# Altium footprint library Motion Controller.PcbLib: 208 footprints (part 1 of 13)
Each footprint in its own frame and in the unit in brackets; x right, y up, seen from the top. Pads: shape width x height; smd on the part's side, far side on the other; paste and mask are expansions set on the pad; w line width, h text height; cw(c..) or ccw(c..) is an arc to the next point about the centre after c.
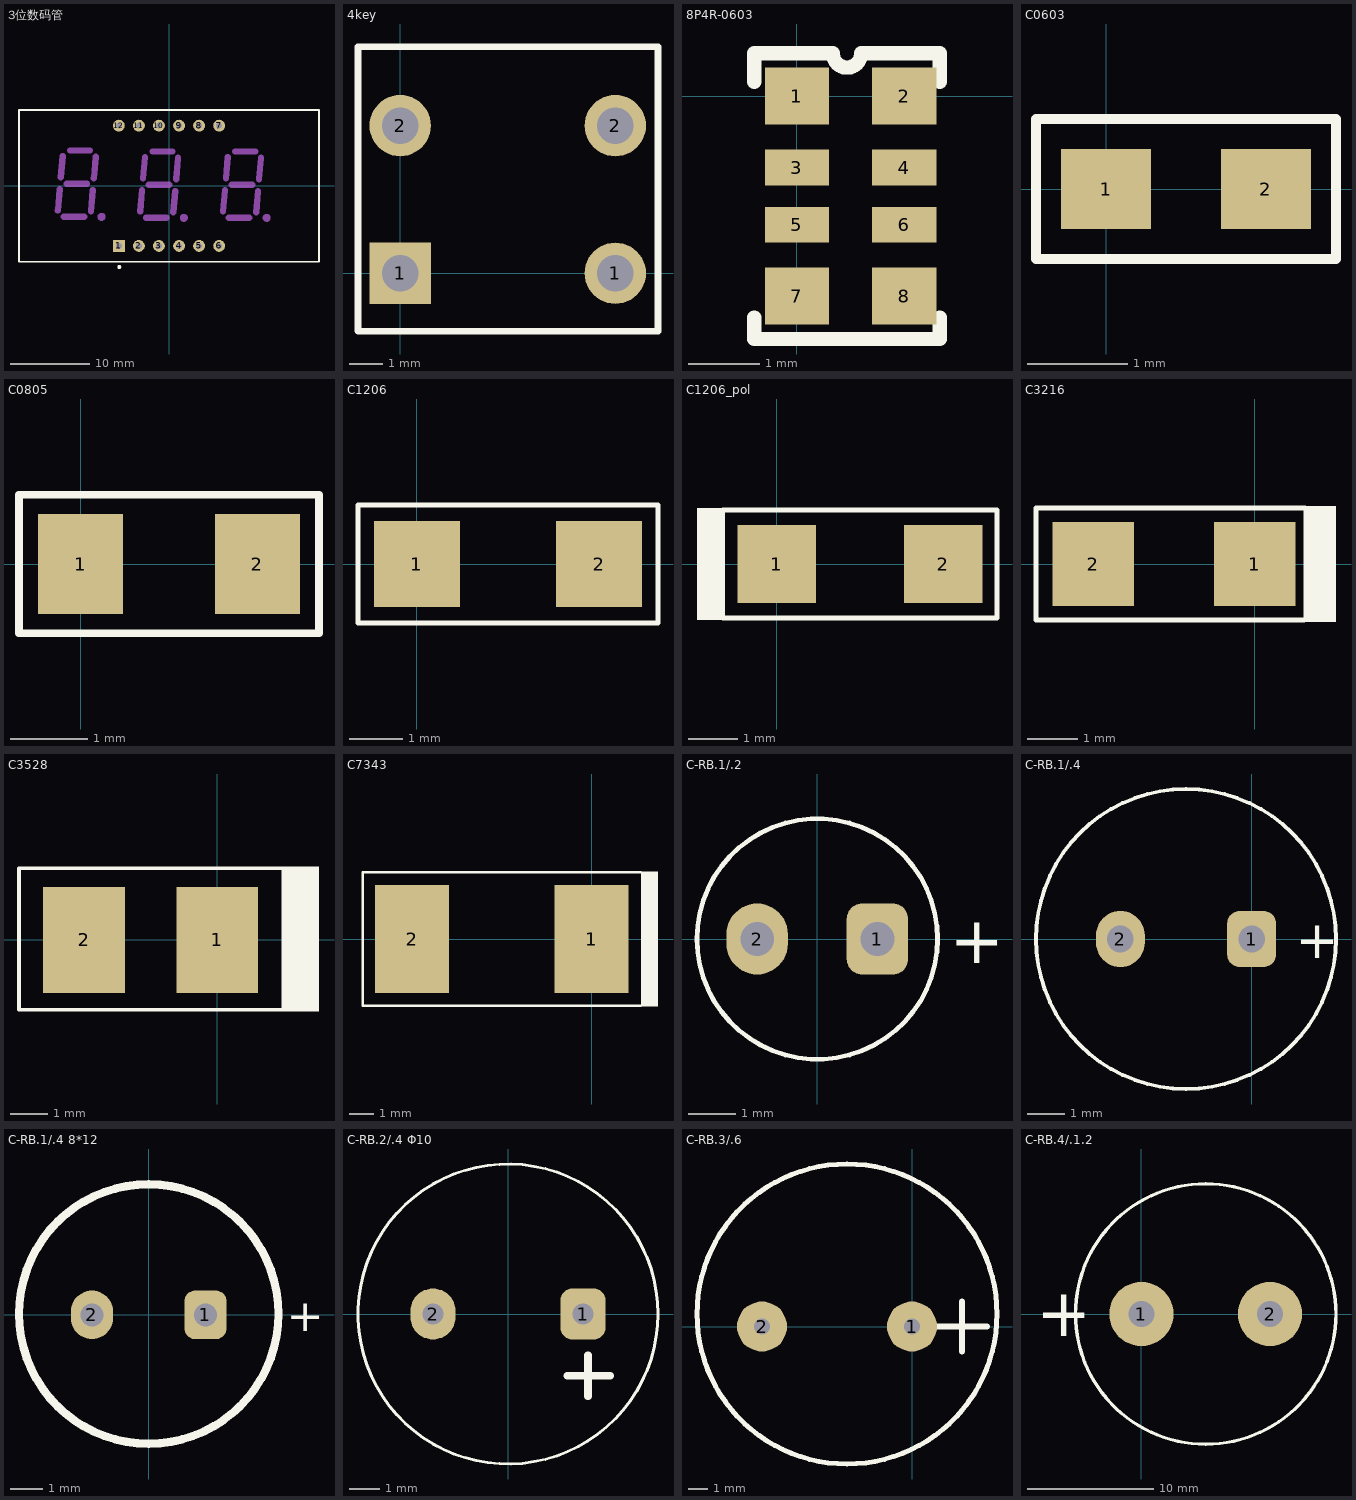
[diagram p0: the footprints below, top view; thin cyan lines are the x and y axes]

## 3位数码管 [mm]
pads (12):
  rect 1.5x1.5 hole 0.762: 1(-6.35,-7.62)
  round 1.5 hole 0.762: 2(-3.81,-7.62) 3(-1.27,-7.62) 4(1.27,-7.62) 5(3.81,-7.62) 6(6.35,-7.62) 7(6.35,7.62) 8(3.81,7.62) 9(1.27,7.62) 10(-1.27,7.62) 11(-3.81,7.62) 12(-6.35,7.62)
Top Overlay:
  circle w0.25: c-6.296,-10.287 r0.125
  lines w0.2: -19,-9.6 19,-9.6 19,9.6 -19,9.6 -19,-9.6
Mechanical 1:
  circle w0.75: c12.376,-4.057 r0.13
  circle w0.75: c-8.545,-3.93 r0.13
  circle w0.75: c1.876,-4.057 r0.13
  lines w0.8: -14.072,-3.132 -13.836,-0.425 ; -13.707,1.071 -13.469,3.766 ; -13.339,-3.93 -10.747,-3.93 ; -12.97,0.27 -10.38,0.27 ; -12.512,4.47 -10.011,4.47 ; -9.881,-3.226 -9.645,-0.532 ; -9.513,0.972 -9.278,3.669 ; -3.651,-3.259 -3.415,-0.552 ; -3.286,0.944 -3.048,3.639 ; -2.918,-4.057 -0.326,-4.057 ; -2.549,0.143 0.041,0.143 ; -2.091,4.343 0.41,4.343 ; 0.54,-3.353 0.776,-0.659 ; 0.908,0.845 1.143,3.542 ; 6.849,-3.259 7.085,-0.552 ; 7.214,0.944 7.452,3.639 ; 7.582,-4.057 10.174,-4.057 ; 7.951,0.143 10.541,0.143 ; 8.409,4.343 10.91,4.343 ; 11.04,-3.353 11.276,-0.659 ; 11.408,0.845 11.643,3.542

## 4key [mm]
pads (4):
  rect 1.85x1.85 hole 1.1: 1(0,0)
  round 1.85 hole 1.1: 1(6.477,0) 2(0,4.445) 2(6.477,4.445)
Top Overlay:
  lines w0.2: -1.27,-1.74 7.763,-1.748 7.763,6.819 -1.27,6.82 -1.27,-1.74

## 8P4R-0603 [mm]
pads (8):
  rect 0.9x0.8 smd: 1(0,0) 2(1.5,0) 7(0,-2.8) 8(1.5,-2.8)
  rect 0.9x0.5 smd: 3(0,-1) 4(1.5,-1) 5(0,-1.8) 6(1.5,-1.8)
Top Overlay:
  lines w0.2: -0.6,-3.1 -0.6,-3.4 2,-3.4 2,-3.1 ; -0.6,0.2 -0.6,0.6 0.5,0.6 ccw(c0.7,0.6) 0.9,0.6 2,0.6 2,0.2

## C0603 [mm]
pads (2):
  rect 0.9x0.8 smd: 1(0,0) 2(1.6,0)
Top Overlay:
  lines w0.1: -0.7,-0.7 1.1,-0.7 2.3,-0.7 2.3,0.7 1.1,0.7 -0.7,0.7 -0.7,-0.7

## C0805 [mm]
pads (2):
  rect 1.1x1.3 smd: 1(0,0) 2(2.3,0)
Top Overlay:
  lines w0.1: -0.8,-0.9 -0.8,0.9 1.7,0.9 3.1,0.9 3.1,-0.9 1.7,-0.9 -0.8,-0.9

## C1206 [mm]
pads (2):
  rect 1.6x1.6 smd: 1(0,0) 2(3.4,0)
Top Overlay:
  lines w0.1: -1.1,-1.1 -1.1,1.1 2.6,1.1 4.5,1.1 4.5,-1.1 2.6,-1.1 -1.1,-1.1

## C1206_pol [mm]
pads (2):
  rect 1.6x1.6 smd: 1(0,0) 2(3.4,0)
Top Overlay:
  rectangle: -1.626,-1.143 -1.1,1.143
  lines w0.1: -1.1,-1.1 2.6,-1.1 4.5,-1.1 4.5,1.1 2.6,1.1 -1.1,1.1 -1.1,-1.1

## C3216 [mm]
pads (2):
  rect 1.6x1.65 smd: 1(0,0) 2(-3.175,0)
Top Overlay:
  rectangle: 0.957,-1.143 1.6,1.143
  lines w0.1: 0.965,-1.1 -0.699,-1.1 -4.3,-1.1 -4.3,1.1 0.991,1.1

## C3528 [mm]
pads (2):
  rect 2.2x2.85 smd: 1(0,0) 2(-3.581,0)
Top Overlay:
  rectangle: 1.727,-1.93 2.743,1.981
  lines w0.1: 1.727,-1.88 -0.94,-1.88 -5.334,-1.88 -5.334,1.93 -0.94,1.93 1.727,1.93

## C7343 [mm]
pads (2):
  rect 3x4.4 smd: 1(0,0) 2(-7.3,0)
Top Overlay:
  rectangle: 2.008,-2.743 2.7,2.743
  lines w0.1: 2.008,-2.708 -1.5,-2.708 -9.308,-2.708 -9.308,2.708 -1.5,2.708 2.008,2.708

## C-RB.1/.2 [mm]
pads (2):
  rrect50% 1.3x1.5 hole 0.711: 1(1.27,0)
  oval 1.3x1.5 hole 0.711: 2(-1.27,0)
Top Overlay:
  circle w0.1: c0,0 r2.54
  text "+" at 2.794,-0.508 h1

## C-RB.1/.4 [mm]
pads (2):
  rrect50% 1.3x1.5 hole 0.711: 1(0,0)
  oval 1.3x1.5 hole 0.711: 2(-3.5,0)
Top Overlay:
  circle w0.1: c-1.75,0 r4
  text "+" at 1.171,-0.508 h1

## C-RB.1/.4 8*12 [mm]
pads (2):
  rrect50% 1.3x1.5 hole 0.711: 1(1.75,0)
  oval 1.3x1.5 hole 0.711: 2(-1.75,0)
Top Overlay:
  circle w0.254: c0,0.025 r4
  text "+" at 4.25,-0.5 h1

## C-RB.2/.4 Φ10 [mm]
pads (2):
  rrect50% 1.5x1.7 hole 0.711: 1(2.5,0)
  oval 1.5x1.7 hole 0.711: 2(-2.5,0)
Top Overlay:
  circle w0.1: c0,0 r5
  lines w0.254: 1.981,-2.057 3.408,-2.057 ; 2.667,-2.743 2.667,-1.372

## C-RB.3/.6 [mil]
pads (2):
  round 100 hole 32: 1(0,0) 2(-300,0)
Top Overlay:
  circle w10: c-130,25 r300
  lines w12: 50,0 150,0 ; 100,-50 100,50

## C-RB.4/.1.2 [mil]
pads (2):
  round 200 hole 80: 1(0,0) 2(400,0)
Top Overlay:
  circle w10: c200,0 r405.25
  text "+" at -328,-69 h150